# Altium footprint library SMA_SMD.PcbLib: 2 footprints
Each footprint in its own frame and in the unit in brackets; x right, y up, seen from the top. Pads: shape width x height; smd on the part's side, far side on the other; paste and mask are expansions set on the pad; w line width, h text height; cw(c..) or ccw(c..) is an arc to the next point about the centre after c.
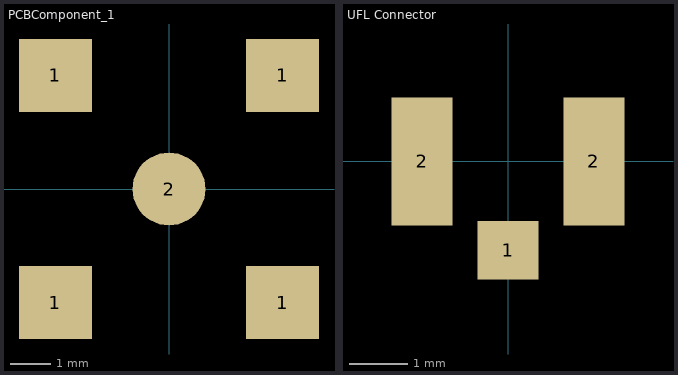
[diagram p0: the footprints below, top view; thin cyan lines are the x and y axes]

## PCBComponent_1 [mm]
pads (5):
  rect 1.8x1.8 smd paste+0 mask+0.102: 1(-2.8,-2.8) 1(-2.8,2.8) 1(2.8,-2.8) 1(2.8,2.8)
  round 1.8 smd paste+0 mask+0.102: 2(0,0)

## UFL Connector [mm]
pads (3):
  rect 1.05x1 smd: 1(0,-1.525)
  rect 1.05x2.2 smd: 2(-1.475,0) 2(1.475,0)
3D body "c-1909763-1-b-3d.stp": height 1.22, standoff -0.01, extent -1.5,-1.931 1.5,1.169